# Altium footprint library PcbLib1.PcbLib: 7 footprints
Each footprint in its own frame and in the unit in brackets; x right, y up, seen from the top. Pads: shape width x height; smd on the part's side, far side on the other; paste and mask are expansions set on the pad; w line width, h text height; cw(c..) or ccw(c..) is an arc to the next point about the centre after c.
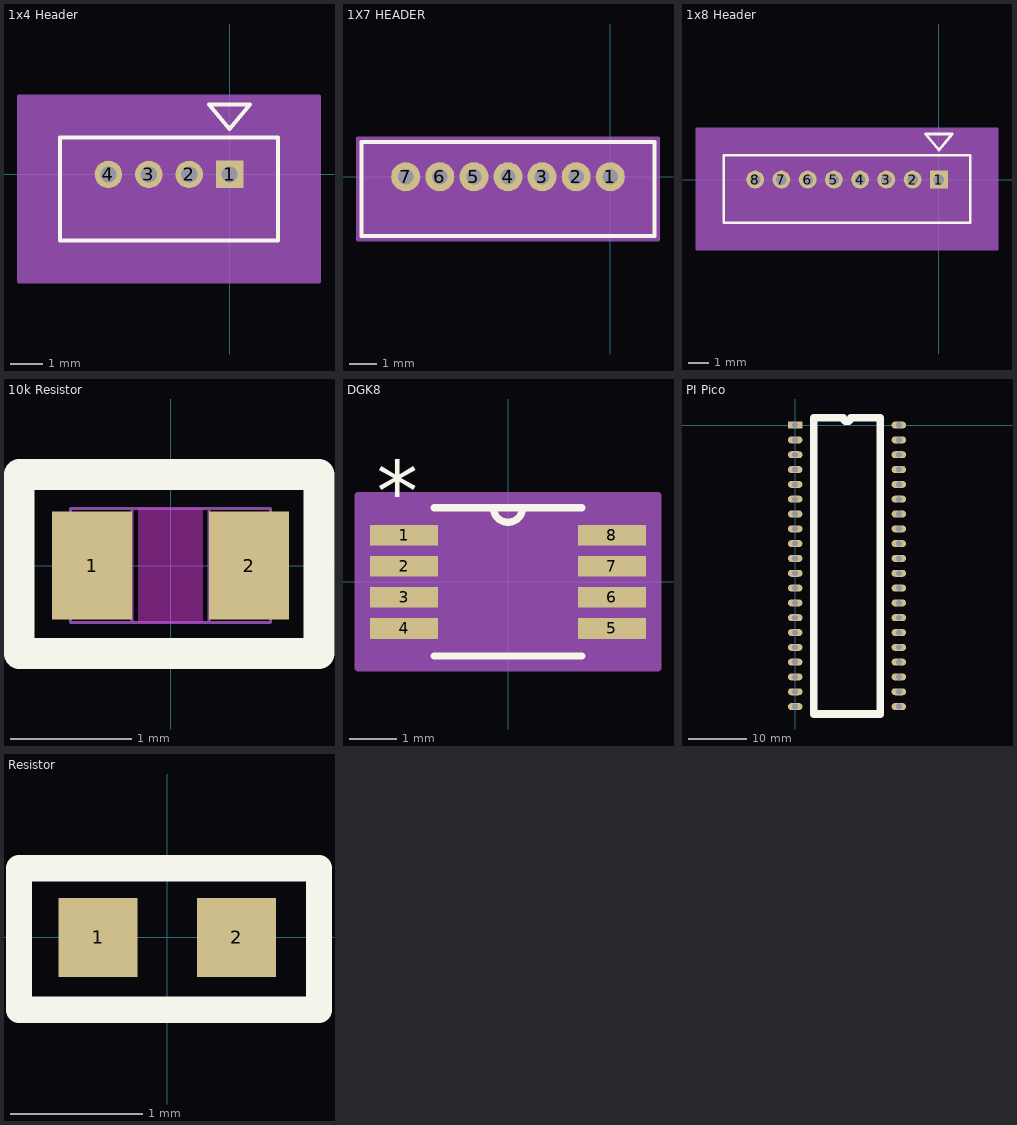
[diagram p0: the footprints below, top view; thin cyan lines are the x and y axes]

## 1x4 Header [mm]
pads (4):
  rect 0.85x0.85 / inner round 1.524 / far side rect 0.85x0.85 hole 0.5 paste-2539.97 mask-2539.97: 1(0,0)
  round 0.85 / inner round 1.524 / far side round 0.85 hole 0.5 paste-2539.97 mask-2539.97: 2(-1.25,0) 3(-2.5,0) 4(-3.75,0)
Top Overlay:
  lines w0.127: -5.25,-2.05 1.5,-2.05 1.5,1.15 -5.25,1.15 -5.25,-2.05 ; -0.635,2.166 0,1.404 0.635,2.166 -0.635,2.166
Top Solder:
  region: -0.425,-0.425 -0.425,0.425 0.425,0.425 0.425,-0.425
  circle w0.425: c-3.75,0 r0.212
  circle w0.425: c-2.5,0 r0.212
  circle w0.425: c-1.25,0 r0.212
Bottom Solder:
  region: -0.425,-0.425 -0.425,0.425 0.425,0.425 0.425,-0.425
  circle w0.425: c-3.75,0 r0.212
  circle w0.425: c-2.5,0 r0.212
  circle w0.425: c-1.25,0 r0.212
Mechanical 3:
  text "MAXIMUM_PACKAGE_HEIGHT:_4.2_MM" at -5.25,-9.01 h1.27
  text "NOTE:" at -5.25,-6.47 h1.27
Mechanical 10:
  text "MAXIMUM_PACKAGE_HEIGHT:_4.2_MM" at -5.25,-9.01 h1.27
  text "NOTE:" at -5.25,-6.47 h1.27
Mechanical 13:
  lines w0.127: -5.25,-2.05 -5.25,1.15 1.5,1.15 1.5,-2.05 -5.25,-2.05 ; -0.635,2.166 0,1.404 0.635,2.166 -0.635,2.166
Mechanical 15:
  region: 2.77,2.42 -6.52,2.42 -6.52,-3.32 2.77,-3.32
  lines w0.127: -6.52,-3.32 2.77,-3.32 2.77,2.42 -6.52,2.42 -6.52,-3.32
3D body "530470410.stp": height 4.21, standoff -2.29, extent -5.25,-2.075 1.5,1.125

## 1X7 HEADER [mil]
pads (7):
  round 42 / inner round 60 / far side round 42 hole 22 paste-99999 mask-99999: 1(0,0) 2(-49.21,0) 3(-98.43,0) 4(-147.64,0) 5(-196.85,0) 6(-246.06,0) 7(-295.28,0)
Top Overlay:
  lines w6: -359.14,-85.72 -359.14,50.28 63.86,50.28 63.86,-85.72 -359.14,-85.72
Top Solder:
  circle w21: c0,0 r10.5
  circle w21: c-295.28,0 r10.5
  circle w21: c-246.06,0 r10.5
  circle w21: c-196.85,0 r10.5
  circle w21: c-147.64,0 r10.5
  circle w21: c-98.43,0 r10.5
  circle w21: c-49.21,0 r10.5
Bottom Solder:
  circle w21: c0,0 r10.5
  circle w21: c-295.28,0 r10.5
  circle w21: c-246.06,0 r10.5
  circle w21: c-196.85,0 r10.5
  circle w21: c-147.64,0 r10.5
  circle w21: c-98.43,0 r10.5
  circle w21: c-49.21,0 r10.5
Mechanical 13:
  lines w1: -354.14,-80.72 -354.14,45.28 58.86,45.28 58.86,-80.72 -354.14,-80.72
Mechanical 15:
  region: 68.86,55.28 -364.14,55.28 -364.14,-90.72 68.86,-90.72
  lines w6: -364.14,-90.72 68.86,-90.72 68.86,55.28 -364.14,55.28 -364.14,-90.72
3D body "530470710.stp": height 165.63, standoff -90.28, extent -353.35,-80.71 60.04,45.28

## 1x8 Header [mm]
pads (8):
  rect 0.85x0.85 / inner round 1.524 / far side rect 0.85x0.85 hole 0.5 paste-2539.97 mask-2539.97: 1(0,0)
  round 0.85 / inner round 1.524 / far side round 0.85 hole 0.5 paste-2539.97 mask-2539.97: 2(-1.25,0) 3(-2.5,0) 4(-3.75,0) 5(-5,0) 6(-6.25,0) 7(-7.5,0) 8(-8.75,0)
Top Overlay:
  lines w0.127: -10.25,-2.05 1.5,-2.05 1.5,1.15 -10.25,1.15 -10.25,-2.05 ; -0.635,2.166 0,1.404 0.635,2.166 -0.635,2.166
Top Solder:
  circle w0.425: c-8.75,0 r0.212
  circle w0.425: c-7.5,0 r0.212
  circle w0.425: c-6.25,0 r0.212
  circle w0.425: c-5,0 r0.212
  circle w0.425: c-3.75,0 r0.212
  circle w0.425: c-2.5,0 r0.212
  circle w0.425: c-1.25,0 r0.212
  region: -0.425,-0.425 -0.425,0.425 0.425,0.425 0.425,-0.425
Bottom Solder:
  circle w0.425: c-8.75,0 r0.212
  circle w0.425: c-7.5,0 r0.212
  circle w0.425: c-6.25,0 r0.212
  circle w0.425: c-5,0 r0.212
  circle w0.425: c-3.75,0 r0.212
  circle w0.425: c-2.5,0 r0.212
  circle w0.425: c-1.25,0 r0.212
  region: -0.425,-0.425 -0.425,0.425 0.425,0.425 0.425,-0.425
Mechanical 13:
  lines w0.127: -10.25,-2.05 -10.25,1.15 1.5,1.15 1.5,-2.05 -10.25,-2.05 ; -0.635,2.166 0,1.404 0.635,2.166 -0.635,2.166
Mechanical 15:
  region: 2.77,2.42 -11.52,2.42 -11.52,-3.32 2.77,-3.32
  lines w0.127: -11.52,-3.32 2.77,-3.32 2.77,2.42 -11.52,2.42 -11.52,-3.32
3D body "530470810.stp": height 4.21, standoff -2.29, extent -10.3,-2.025 1.45,1.175

## 10k Resistor [mil]
pads (2):
  rect 26x35 smd paste-99999 mask-99999: 1(-25.5,0) 2(25.5,0)
Top Layer keep-out:
  region: -10.5,-16.5 -10.5,16.5 10.5,16.5 10.5,-16.5
Top Overlay:
  lines w10: -49.21,-28.54 48.23,-28.54 48.23,29.53 -49.21,29.53 -49.21,-28.54
Top Paste:
  region: 12.5,-17.5 12.5,17.5 38.5,17.5 38.5,-17.5
  region: -38.5,-17.5 -38.5,17.5 -12.5,17.5 -12.5,-17.5
Top Solder:
  region: 12.5,-17.5 12.5,17.5 38.5,17.5 38.5,-17.5
  region: -38.5,-17.5 -38.5,17.5 -12.5,17.5 -12.5,-17.5
Keep-Out Layer:
  region: -10.5,-18.5 -10.5,18.5 10.5,18.5 10.5,-18.5
Mechanical 13:
  lines w1: -32.5,-18.5 -32.5,18.5 ; -32.5,-18.5 32.5,-18.5 ; -32.5,-18.5 -12.5,-18.5 -12.5,18.5 -32.5,18.5 ; -32.5,-18.5 -32.5,18.5 ; -32.5,18.5 32.5,18.5 ; 32.5,-18.5 32.5,18.5 ; 32.5,-18.5 32.5,18.5 ; 32.5,-18.5 12.5,-18.5 12.5,18.5 32.5,18.5
3D body "RES_CRCW_0603.step": height 20, standoff 0, extent -32.52,-18.5 32.52,18.5

## DGK8 [mil]
pads (8):
  rect 56x17 smd paste-99999 mask-99999: 1(-85.5,38.39) 2(-85.5,12.8) 3(-85.5,-12.8) 4(-85.5,-38.39) 5(85.5,-38.39) 6(85.5,-12.8) 7(85.5,12.8) 8(85.5,38.39)
Top Overlay:
  lines w6: -61,-61 61,-61 ; -61,61 61,61 ; -12,61 ccw(c0,61) 12,61
  text "*" at -108,50.39 h50
Top Paste:
  region: 57.5,29.89 57.5,46.89 113.5,46.89 113.5,29.89
  region: 57.5,4.3 57.5,21.3 113.5,21.3 113.5,4.3
  region: 57.5,-21.3 57.5,-4.3 113.5,-4.3 113.5,-21.3
  region: 57.5,-46.89 57.5,-29.89 113.5,-29.89 113.5,-46.89
  region: -113.5,-46.89 -113.5,-29.89 -57.5,-29.89 -57.5,-46.89
  region: -113.5,-21.3 -113.5,-4.3 -57.5,-4.3 -57.5,-21.3
  region: -113.5,4.3 -113.5,21.3 -57.5,21.3 -57.5,4.3
  region: -113.5,29.89 -113.5,46.89 -57.5,46.89 -57.5,29.89
Top Solder:
  region: 57.5,29.89 57.5,46.89 113.5,46.89 113.5,29.89
  region: 57.5,4.3 57.5,21.3 113.5,21.3 113.5,4.3
  region: 57.5,-21.3 57.5,-4.3 113.5,-4.3 113.5,-21.3
  region: 57.5,-46.89 57.5,-29.89 113.5,-29.89 113.5,-46.89
  region: -113.5,-46.89 -113.5,-29.89 -57.5,-29.89 -57.5,-46.89
  region: -113.5,-21.3 -113.5,-4.3 -57.5,-4.3 -57.5,-21.3
  region: -113.5,4.3 -113.5,21.3 -57.5,21.3 -57.5,4.3
  region: -113.5,29.89 -113.5,46.89 -57.5,46.89 -57.5,29.89
Mechanical 13:
  lines w0: -12,61 ccw(c0,61) 12,61
  lines w1: -99.5,-45.89 -61,-45.89 -61,-30.89 -99.5,-30.89 -99.5,-45.89 ; -99.5,-20.3 -61,-20.3 -61,-5.3 -99.5,-5.3 -99.5,-20.3 ; -99.5,5.3 -61,5.3 -61,20.3 -99.5,20.3 -99.5,5.3 ; -99.5,30.89 -61,30.89 -61,45.89 -99.5,45.89 -99.5,30.89 ; -61,-61 -61,61 61,61 61,-61 -61,-61 ; 61,-45.89 99.5,-45.89 99.5,-30.89 61,-30.89 61,-45.89 ; 61,-20.3 99.5,-20.3 99.5,-5.3 61,-5.3 61,-20.3 ; 61,5.3 99.5,5.3 99.5,20.3 61,20.3 61,5.3 ; 61,30.89 99.5,30.89 99.5,45.89 61,45.89 61,30.89
  text "*" at -108,50.39 h50
Mechanical 15:
  region: 123.5,-71 -123.5,-71 -123.5,71 123.5,71
  lines w6: -123.5,-71 123.5,-71 123.5,71 -123.5,71 -123.5,-71
3D body "DGK8.step": height 43.11, standoff 0, extent -99.49,-60.98 99.49,60.98

## PI Pico [mm]
pads (40):
  rect 2.5x1.2 hole 1 paste-2539.97 mask-2539.97: 1(0,0)
  oval 2.5x1.2 hole 1 paste-2539.97 mask-2539.97: 2(0,-2.54) 3(0,-5.08) 4(0,-7.62) 5(0,-10.16) 6(0,-12.7) 7(0,-15.24) 8(0,-17.78) 9(0,-20.32) 10(0,-22.86) 11(0,-25.4) 12(0,-27.94) 13(0,-30.48) 14(0,-33.02) 15(0,-35.56) 16(0,-38.1) 17(0,-40.64) 18(0,-43.18) 19(0,-45.72) 20(0,-48.26) 21(17.78,-48.26) 22(17.78,-45.72) 23(17.78,-43.18) 24(17.78,-40.64) 25(17.78,-38.1) 26(17.78,-35.56) 27(17.78,-33.02) 28(17.78,-30.48) 29(17.78,-27.94) 30(17.78,-25.4) 31(17.78,-22.86) 32(17.78,-20.32) 33(17.78,-17.78) 34(17.78,-15.24) 35(17.78,-12.7) 36(17.78,-10.16) 37(17.78,-7.62) 38(17.78,-5.08) 39(17.78,-2.54) 40(17.78,0)
Top Overlay:
  lines w1.3: 3.185,-49.53 3.185,1.27 8.255,1.27 ccw(c8.89,1.27) 9.525,1.27 14.595,1.27 14.595,-49.53 3.185,-49.53
Top Solder:
  region: -1.25,-0.6 -1.25,0.6 1.25,0.6 1.25,-0.6
  lines w1.2: -0.65,-48.26 0.65,-48.26 ; -0.65,-45.72 0.65,-45.72 ; -0.65,-43.18 0.65,-43.18 ; -0.65,-40.64 0.65,-40.64 ; -0.65,-38.1 0.65,-38.1 ; -0.65,-35.56 0.65,-35.56 ; -0.65,-33.02 0.65,-33.02 ; -0.65,-30.48 0.65,-30.48 ; -0.65,-27.94 0.65,-27.94 ; -0.65,-25.4 0.65,-25.4 ; -0.65,-22.86 0.65,-22.86 ; -0.65,-20.32 0.65,-20.32 ; -0.65,-17.78 0.65,-17.78 ; -0.65,-15.24 0.65,-15.24 ; -0.65,-12.7 0.65,-12.7 ; -0.65,-10.16 0.65,-10.16 ; -0.65,-7.62 0.65,-7.62 ; -0.65,-5.08 0.65,-5.08 ; -0.65,-2.54 0.65,-2.54 ; 17.13,-48.26 18.43,-48.26 ; 17.13,-45.72 18.43,-45.72 ; 17.13,-43.18 18.43,-43.18 ; 17.13,-40.64 18.43,-40.64 ; 17.13,-38.1 18.43,-38.1 ; 17.13,-35.56 18.43,-35.56 ; 17.13,-33.02 18.43,-33.02 ; 17.13,-30.48 18.43,-30.48 ; 17.13,-27.94 18.43,-27.94 ; 17.13,-25.4 18.43,-25.4 ; 17.13,-22.86 18.43,-22.86 ; 17.13,-20.32 18.43,-20.32 ; 17.13,-17.78 18.43,-17.78 ; 17.13,-15.24 18.43,-15.24 ; 17.13,-12.7 18.43,-12.7 ; 17.13,-10.16 18.43,-10.16 ; 17.13,-7.62 18.43,-7.62 ; 17.13,-5.08 18.43,-5.08 ; 17.13,-2.54 18.43,-2.54 ; 17.13,0 18.43,0
Bottom Solder:
  region: -1.25,-0.6 -1.25,0.6 1.25,0.6 1.25,-0.6
  lines w1.2: -0.65,-48.26 0.65,-48.26 ; -0.65,-45.72 0.65,-45.72 ; -0.65,-43.18 0.65,-43.18 ; -0.65,-40.64 0.65,-40.64 ; -0.65,-38.1 0.65,-38.1 ; -0.65,-35.56 0.65,-35.56 ; -0.65,-33.02 0.65,-33.02 ; -0.65,-30.48 0.65,-30.48 ; -0.65,-27.94 0.65,-27.94 ; -0.65,-25.4 0.65,-25.4 ; -0.65,-22.86 0.65,-22.86 ; -0.65,-20.32 0.65,-20.32 ; -0.65,-17.78 0.65,-17.78 ; -0.65,-15.24 0.65,-15.24 ; -0.65,-12.7 0.65,-12.7 ; -0.65,-10.16 0.65,-10.16 ; -0.65,-7.62 0.65,-7.62 ; -0.65,-5.08 0.65,-5.08 ; -0.65,-2.54 0.65,-2.54 ; 17.13,-48.26 18.43,-48.26 ; 17.13,-45.72 18.43,-45.72 ; 17.13,-43.18 18.43,-43.18 ; 17.13,-40.64 18.43,-40.64 ; 17.13,-38.1 18.43,-38.1 ; 17.13,-35.56 18.43,-35.56 ; 17.13,-33.02 18.43,-33.02 ; 17.13,-30.48 18.43,-30.48 ; 17.13,-27.94 18.43,-27.94 ; 17.13,-25.4 18.43,-25.4 ; 17.13,-22.86 18.43,-22.86 ; 17.13,-20.32 18.43,-20.32 ; 17.13,-17.78 18.43,-17.78 ; 17.13,-15.24 18.43,-15.24 ; 17.13,-12.7 18.43,-12.7 ; 17.13,-10.16 18.43,-10.16 ; 17.13,-7.62 18.43,-7.62 ; 17.13,-5.08 18.43,-5.08 ; 17.13,-2.54 18.43,-2.54 ; 17.13,0 18.43,0
3D body "PicoW.stp": height 3.61, standoff -0.05, extent -1.6,-49.65 19.4,2.7

## Resistor [mm]
pads (2):
  rect 0.6x0.6 smd paste-2539.97 mask-2539.97: 1(-0.525,0) 2(0.525,0)
Top Overlay:
  lines w0.2: -1.125,-0.55 1.15,-0.55 1.15,0.525 -1.125,0.525 -1.125,-0.55
Top Paste:
  region: 0.225,-0.3 0.225,0.3 0.825,0.3 0.825,-0.3
  region: -0.825,-0.3 -0.825,0.3 -0.225,0.3 -0.225,-0.3
Top Solder:
  region: 0.225,-0.3 0.225,0.3 0.825,0.3 0.825,-0.3
  region: -0.825,-0.3 -0.825,0.3 -0.225,0.3 -0.225,-0.3
3D body "RES_CRCW_0402.step": height 0.56, standoff 0, extent -0.521,-0.2 0.521,0.206